# EAGLE library part LTC4222 (library Baja_Parts_Lib)
Hot Swap Voltage Controllers Dual Hot Swap Controller w/ADC and I2C Source: Data Sheet <https://www.mouser.com/datasheet/2/609/4222fb-1270163.pdf>
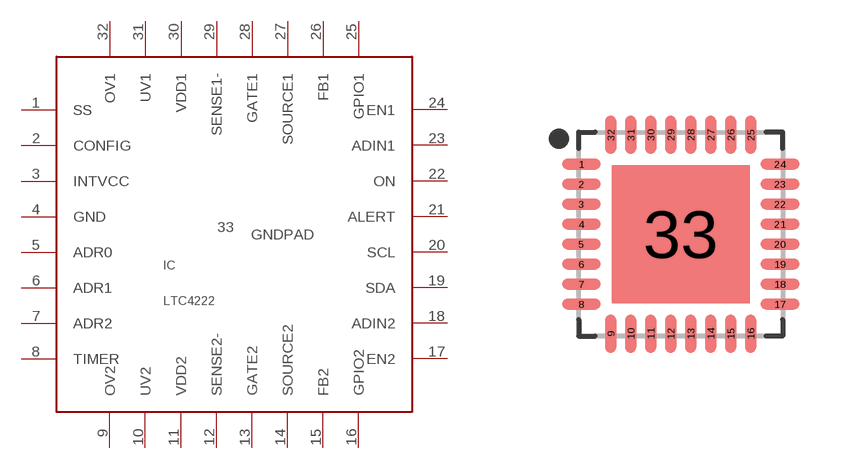
[diagram p0: symbol with the pads of QFN50P500X500X75-33T345M; footprint QFN50P500X500X75-33T345M]

Designator prefix IC

## LTC4222 (DESCRIPTION: Hot Swap Voltage Controllers Dual Hot Swap Controller w/ADC and I2C; HEIGHT: 0.75 mm; MANUFACTURER_NAME: Analog Devices; MANUFACTURER_PART_NUMBER: LTC4222CUH#PBF; MOUSER_PART_NUMBER: 584-LTC4222CUH#PBF; MOUSER_PRICE-STOCK: https://www.mouser.com/ProductDetail/Analog-Devices/LTC4222CUHPBF?qs=sGAEpiMZZMsKEdP9slC0YZc6cH0Tuf0NcujsStLpH6A%3D)  [QFN50P500X500X75-33T345M]
1  SS
2  CONFIG
3  INTVCC
4  GND
5  ADR0
6  ADR1
7  ADR2
8  TIMER
9  OV2
10  UV2
11  VDD2
12  SENSE2-
13  GATE2
14  SOURCE2
15  FB2
16  GPIO2
17  EN2
18  ADIN2
19  SDA
20  SCL
21  ALERT
22  ON
23  ADIN1
24  EN1
25  GPIO1
26  FB1
27  SOURCE1
28  GATE1
29  SENSE1-
30  VDD1
31  UV1
32  OV1
33  GNDPAD

## Footprint QFN50P500X500X75-33T345M (pad centres in mm)
32-QFN, 0.50 mm pitch, 5.00 X 5.00 X 0.75 mm body, 3.45 X 3.45 mm thermal pad 32-pin QFN package with 0.50 mm pitch with body size 5.00 X 5.00 X 0.75 mm and thermal pad size 3.45 X 3.45 mm
smd 0.96 x 0.27: 1 -2.485,1.75; 2 -2.485,1.25; 3 -2.485,0.75; 4 -2.485,0.25; 5 -2.485,-0.25; 6 -2.485,-0.75; 7 -2.485,-1.25; 8 -2.485,-1.75; 17 2.485,-1.75; 18 2.485,-1.25; 19 2.485,-0.75; 20 2.485,-0.25; 21 2.485,0.25; 22 2.485,0.75; 23 2.485,1.25; 24 2.485,1.75
smd 0.27 x 0.96: 9 -1.75,-2.485; 10 -1.25,-2.485; 11 -0.75,-2.485; 12 -0.25,-2.485; 13 0.25,-2.485; 14 0.75,-2.485; 15 1.25,-2.485; 16 1.75,-2.485; 25 1.75,2.485; 26 1.25,2.485; 27 0.75,2.485; 28 0.25,2.485; 29 -0.25,2.485; 30 -0.75,2.485; 31 -1.25,2.485; 32 -1.75,2.485
smd 3.45 x 3.45: 33 0,0